# Altium footprint library Power Module.PcbLib: 12 footprints
Each footprint in its own frame and in the unit in brackets; x right, y up, seen from the top. Pads: shape width x height; smd on the part's side, far side on the other; paste and mask are expansions set on the pad; w line width, h text height; cw(c..) or ccw(c..) is an arc to the next point about the centre after c.
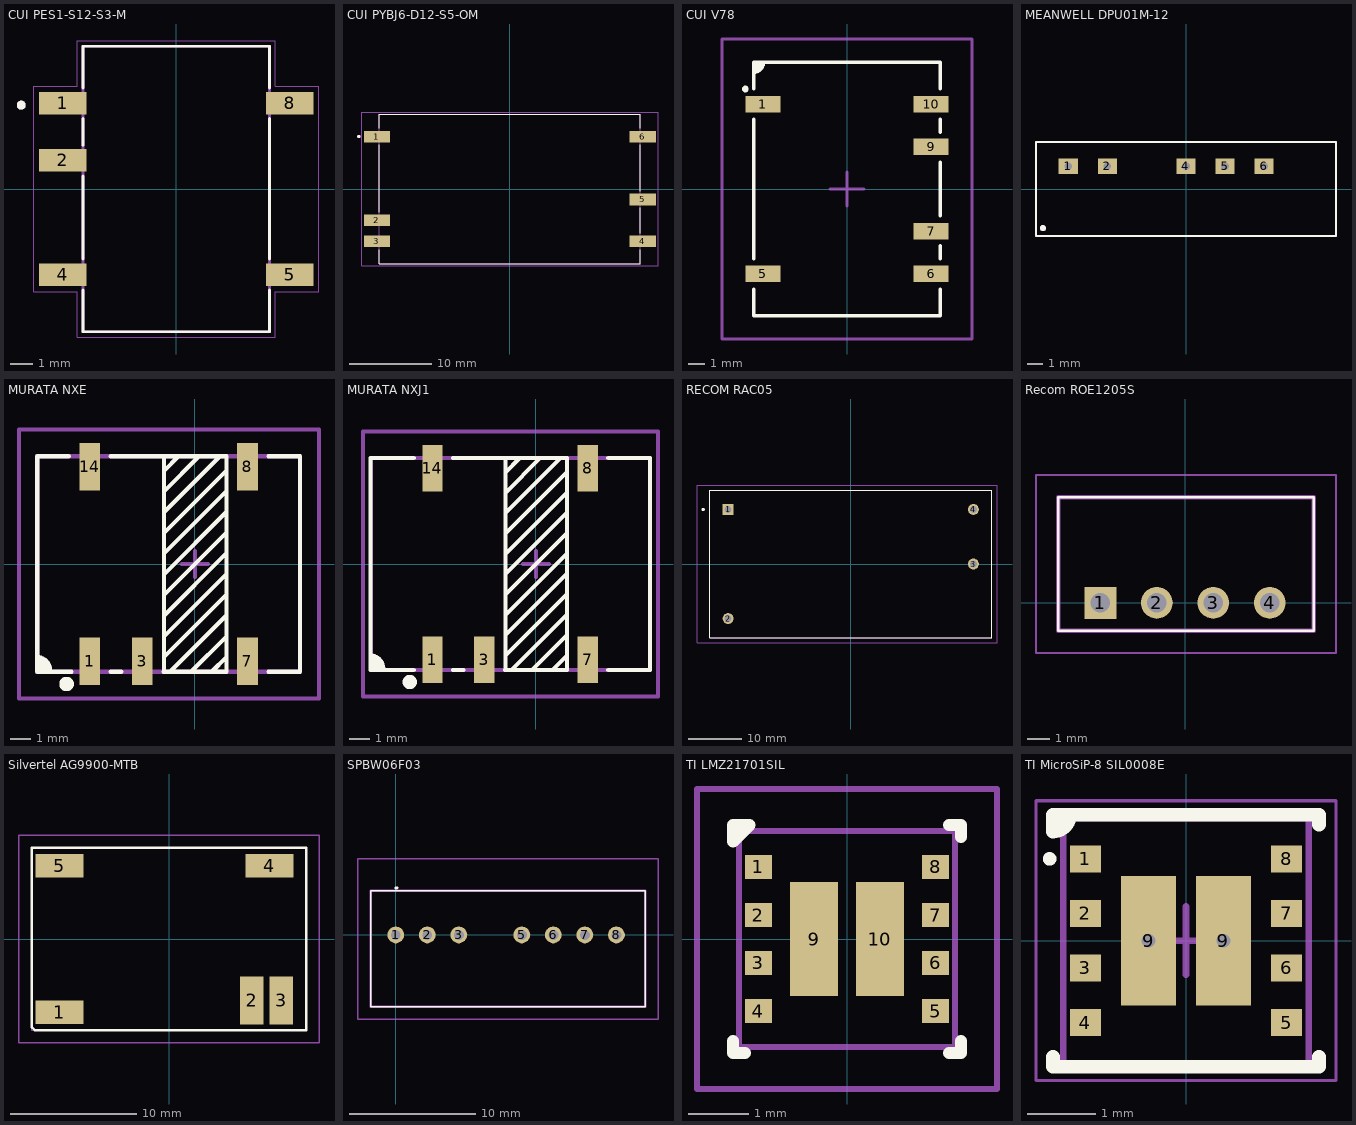
[diagram p0: the footprints below, top view; thin cyan lines are the x and y axes]

## CUI PES1-S12-S3-M [mm] "Non-isolated switching regulator 12.70 x 8.30 x 7.25"
pads (5):
  rect 2.1x1 smd: 1(-5.05,3.81) 2(-5.05,1.27) 4(-5.05,-3.81) 5(5.05,-3.81) 8(5.05,3.81)
Top Overlay:
  circle w0.2: c-6.9,3.73 r0.1
  lines w0.127: -4.15,-4.5 -4.15,-6.35 4.15,-6.35 4.15,-4.49 ; -4.15,-3.12 -4.15,0.58 ; -4.15,1.95 -4.15,3.13 ; -4.15,4.49 -4.15,6.35 4.15,6.35 4.15,4.49 ; 4.15,-3.12 4.15,3.13
Top Component Outline:
  circle w0.2: c-6.9,3.73 r0.1
  circle w0.2: c-6.9,3.73 r0.1
  lines w0.127: -4.15,-6.35 4.15,-6.35 ; -4.15,-6.35 -4.15,6.35 ; -4.15,-6.35 4.15,-6.35 ; -4.15,-6.35 -4.15,6.35 ; -4.15,6.35 4.15,6.35 ; -4.15,6.35 4.15,6.35 ; 4.15,-6.35 4.15,6.35 ; 4.15,-6.35 4.15,6.35
Top Courtyard:
  lines w0.05: -6.35,-4.58 -4.4,-4.58 -4.4,-6.6 4.4,-6.6 4.4,-4.57 6.35,-4.57 6.35,4.58 4.4,4.58 4.4,6.6 -4.4,6.6 -4.4,4.58 -6.35,4.58 -6.35,-4.58
3D body "CUI_PES1-S12-S3-M.step": height 7, standoff -0.25, extent -5.622,-6.35 5.622,6.35

## CUI PYBJ6-D12-S5-OM [mm]
pads (6):
  rect 3.2x1.4 smd: 1(-16.09,6.35) 2(-16.09,-3.81) 3(-16.09,-6.35) 4(16.09,-6.35) 5(16.09,-1.27) 6(16.09,6.35)
Top Overlay:
  circle w0.2: c-18.288,6.35 r0.1
  lines w0.127: -15.8,-7.37 -15.8,-9.05 -1.32,-9.05 15.8,-9.05 15.8,-7.37 ; -15.8,-2.79 -15.8,5.33 ; -15.8,7.37 -15.8,9.05 15.8,9.05 15.8,7.37 ; 15.8,-5.33 15.8,-2.29 ; 15.8,-0.25 15.8,5.33
Fab Notes:
  circle w0.2: c-18.288,6.35 r0.1
  circle w0.2: c-18.288,6.35 r0.1
  lines w0.127: -15.8,-9.05 15.8,-9.05 ; -15.8,-9.05 -15.8,9.05 ; -15.8,-9.05 15.8,-9.05 ; -15.8,-9.05 -15.8,9.05 ; -15.8,9.05 15.8,9.05 ; -15.8,9.05 15.8,9.05 ; 15.8,-9.05 15.8,9.05 ; 15.8,-9.05 15.8,9.05
Bottom Courtyard:
  lines w0.05: -17.94,-9.3 -17.94,9.3 17.94,9.3 17.94,-9.3 -17.94,-9.3
3D body "CUI PYBJ6-D12-S5-OM.step": height 6.3, standoff 0, extent -16.982,-9.101 16.895,9.037

## CUI V78 [mm] "Non-isolated switching regulator"
height 7.25
pads (6):
  rect 2.1x1 smd: 1(-5.05,5.08) 5(-5.05,-5.08) 6(5.05,-5.08) 7(5.05,-2.54) 9(5.05,2.54) 10(5.05,5.08)
Top Overlay:
  circle w0.2: c-6.1,6 r0.1
  region: -5,7.6 -5,7.4 -5.4,7 -5.6,7 -5.6,7.6
  lines w0.2: -5.6,-6 -5.6,-7.6 5.6,-7.6 5.6,-6 ; -5.6,-4.2 -5.6,4.2 ; -5.6,6 -5.6,7.6 5.6,7.6 5.6,6 ; -5.6,7 ccw(c-5.6,7.6) -5,7.6 ; 5.6,-4.2 5.6,-3.4 ; 5.6,-1.6 5.6,1.6 ; 5.6,3.4 5.6,4.2
Top Courtyard:
  lines w0.2: -1,0 1,0 ; 0,-1 0,1 ; -7.5,-9 7.5,-9 7.5,9 -7.5,9 -7.5,-9
3D body "CUI V78.STEP": height 7.25, standoff 0, extent -5.622,-7.62 5.622,7.62

## MEANWELL DPU01M-12 [mm] "Isolated switching regulator 19.5x6x1x10.2mm"
height 10.2
pads (5):
  rect 1.25x1 hole 0.5 square: 1(-7.65,1.475) 2(-5.11,1.475) 4(-0.003,1.475) 5(2.537,1.475) 6(5.077,1.475)
Top Overlay:
  circle w0.2: c-9.3,-2.545 r0.1
  lines w0.127: -9.75,-3.05 -9.75,3.05 9.75,3.05 9.75,-3.05 -9.75,-3.05
Top Component Outline:
  circle w0.2: c-9.3,-2.545 r0.1
  circle w0.2: c-9.3,-2.545 r0.1
  lines w0.127: -9.75,-3.05 -9.75,3.05 ; -9.75,-3.05 9.75,-3.05 ; -9.75,-3.05 -9.75,3.05 ; -9.75,-3.05 9.75,-3.05 ; -9.75,3.05 9.75,3.05 ; -9.75,3.05 9.75,3.05 ; 9.75,-3.05 9.75,3.05 ; 9.75,-3.05 9.75,3.05
Top Courtyard:
  lines w0.05: -9.75,-3.05 9.75,-3.05 9.75,3.05 -9.75,3.05 -9.75,-3.05
3D body: height 10.2, standoff 0, extent -9.725,-3.025 9.725,3.05

## MURATA NXE [mm]
height 4.7
pads (5):
  rect 1x2.3 smd: 1(-5.08,-4.7) 3(-2.54,-4.7) 7(2.54,-4.7) 8(2.54,4.7) 14(-5.08,4.7)
Top Overlay:
  circle w0.5: c-6.2,-5.8 r0.1
  region: -7,-5.207 -7,-4.9 -7.4,-4.5 -7.62,-4.5 -7.62,-5.207
  lines w0.2: -7.62,-4.5 cw(c-7.62,-5.12) -7,-5.12 ; -6.096,5.207 -7.62,5.207 -7.62,-5.207 -5.969,-5.207 ; -4.064,-5.207 -3.556,-5.207 ; -4.064,5.207 1.524,5.207 ; -1.5,-4.5 1.5,-1.5 ; -1.5,-3.5 1.5,-0.5 ; -1.5,-2.5 1.5,0.5 ; -1.5,-1.5 1.5,1.5 ; -1.5,-0.5 1.5,2.5 ; -1.5,0.5 1.5,3.5 ; -1.5,1.5 1.5,4.5 ; -1.5,2.5 1.207,5.207 ; -1.5,3.5 0.207,5.207 ; -1.5,4.5 -0.793,5.207 ; -1.5,5.207 -1.5,-5.207 -1.524,-5.207 1.524,-5.207 1.524,5.207 ; -1.207,-5.207 1.5,-2.5 ; -0.183,-5.207 1.524,-3.5 ; 0.817,-5.207 1.524,-4.5 ; 1.524,5.024 1.524,5.207 ; 3.556,-5.207 5.08,-5.207 5.08,5.207 3.556,5.207
Board:
  lines w0.2: -7.62,-5.207 5.08,-5.207 5.08,5.207 -7.62,5.207 -7.62,-5.207
Top Courtyard:
  lines w0.2: -0.635,0 0.635,0 ; 0,-0.635 0,0.635 ; -8.5,-6.5 6,-6.5 6,6.5 -8.5,6.5 -8.5,-6.5
3D body "MURATA NXE.STEP": height 4.48, standoff -0.01, extent -7.62,-5.207 5.08,5.207

## MURATA NXJ1 [mm]
height 4.7
pads (5):
  rect 1x2.3 smd: 1(-5.08,-4.7) 3(-2.54,-4.7) 7(2.54,-4.7) 8(2.54,4.7) 14(-5.08,4.7)
Top Overlay:
  circle w0.5: c-6.2,-5.8 r0.1
  region: -7.5,-5.207 -7.5,-4.9 -7.9,-4.5 -8.12,-4.5 -8.12,-5.207
  lines w0.2: -8.12,-4.5 cw(c-8.12,-5.12) -7.5,-5.12 ; -6,-5.207 -8.12,-5.207 -8.12,5.207 -6,5.207 ; -4.064,-5.207 -3.556,-5.207 ; -4.064,5.207 1.524,5.207 ; -1.5,-4.5 1.5,-1.5 ; -1.5,-3.5 1.5,-0.5 ; -1.5,-2.5 1.5,0.5 ; -1.5,-1.5 1.5,1.5 ; -1.5,-0.5 1.5,2.5 ; -1.5,0.5 1.5,3.5 ; -1.5,1.5 1.5,4.5 ; -1.5,2.5 1.207,5.207 ; -1.5,3.5 0.207,5.207 ; -1.5,4.5 -0.793,5.207 ; -1.5,5.207 -1.5,-5.207 -1.524,-5.207 1.524,-5.207 1.524,5.207 ; -1.207,-5.207 1.5,-2.5 ; -0.183,-5.207 1.524,-3.5 ; 0.817,-5.207 1.524,-4.5 ; 1.524,5.024 1.524,5.207 ; 3.556,-5.207 5.6,-5.207 5.6,5.207 3.556,5.207
Board:
  lines w0.2: -8.1,-5.207 -8.1,5.207 5.6,5.207 5.6,-5.207 -8.1,-5.207
Top Courtyard:
  lines w0.2: -0.635,0 0.635,0 ; 0,-0.635 0,0.635 ; -8.5,-6.5 -8.5,6.5 6,6.5 6,-6.5 -8.5,-6.5
3D body "Murata NXJ1.STEP": height 4.22, standoff 0, extent -8.128,-5.232 5.588,5.232

## RECOM RAC05 [mm]
pads (4):
  rect 2.025x2.025 hole 1.35: 1(-22.86,10.16)
  round 2.025 hole 1.35: 2(-22.86,-10.16) 3(22.86,0) 4(22.86,10.16)
Top Overlay:
  lines w0.1: -26.25,-13.7 26.25,-13.7 26.25,13.7 -26.25,13.7 -26.25,-13.7
  lines w0.3: -27.66,10.16 cw(c-27.51,10.16) -27.36,10.16 cw(c-27.51,10.16) -27.66,10.16
Top Component Outline:
  lines w0.2: -26.25,-13.7 26.25,-13.7 26.25,13.7 -26.25,13.7 -26.25,-13.7
Top Courtyard:
  lines w0.1: -28.66,-14.7 27.25,-14.7 ; -28.66,-14.7 -28.66,14.7 ; -28.66,-14.7 27.25,-14.7 ; -28.66,-14.7 -28.66,14.7 ; -28.66,14.7 27.25,14.7 ; -28.66,14.7 27.25,14.7 ; 27.25,-14.7 27.25,14.7 ; 27.25,-14.7 27.25,14.7
3D body "RAC05-05SK_480.stp": height 23, standoff -6, extent -26.15,-13.7 26.35,13.7

## Recom ROE1205S [mm]
height 10
pads (4):
  rect 1.43x1.43 hole 0.88: 1(-3.81,0)
  round 1.43 hole 0.88: 2(-1.27,0) 3(1.27,0) 4(3.81,0)
Top Overlay:
  lines w0.1: -5.71,-1.25 -5.71,4.75 5.79,4.75 5.79,-1.25 -5.71,-1.25
Top Component Outline:
  lines w0.2: -5.71,-1.25 -5.71,4.75 5.79,4.75 5.79,-1.25 -5.71,-1.25
Top Courtyard:
  lines w0.1: -6.71,-2.25 -6.71,5.75 6.79,5.75 6.79,-2.25 -6.71,-2.25
3D body "RECOM ROE-2412S.STEP": height 9.5, standoff -4.6, extent -5.76,-1.3 5.74,4.7

## Silvertel AG9900-MTB [mm]
height 9.2
pads (5):
  rect 3.81x1.83 smd: 1(-8.655,-5.79) 4(7.935,5.79) 5(-8.655,5.79)
  rect 1.83x3.81 smd: 2(6.535,-4.85) 3(8.875,-4.85)
Top Overlay:
  lines w0.2: -10.855,-6.945 -10.855,7.21 10.855,7.21 10.855,-7.21 -10.59,-7.21 -10.855,-6.945
Top Component Outline:
  lines w0.1: -10.855,-7.21 10.855,-7.21 10.855,7.21 -10.855,7.21 -10.855,-7.21
Top Courtyard:
  lines w0.1: -11.855,-8.21 11.855,-8.21 11.855,8.21 -11.855,8.21 -11.855,-8.21
3D body "Silvertel Ag9900MTB Detailed.step": height 12.99, standoff -0.05, extent -10.905,-7 10.304,6.919

## SPBW06F03 [mm]
pads (7):
  round 1.337 hole 0.78: 1(0,0) 2(2.5,0) 3(5,0) 5(10,0) 6(12.5,0) 7(15,0) 8(17.5,0)
Top Overlay:
  lines w0.1: -2,-5.7 19.8,-5.7 19.8,3.5 -2,3.5 -2,-5.7
  lines w0.2: 0,3.75 ccw(c0.05,3.75) 0.1,3.75
Top Component Outline:
  lines w0.2: -2,-5.7 19.8,-5.7 19.8,3.5 -2,3.5 -2,-5.7
Top Courtyard:
  lines w0.1: -3,-6.7 20.8,-6.7 20.8,6.05 -3,6.05 -3,-6.7
3D body "SPBW06F-03.stp": height 11.1, standoff -5, extent -2,-5.7 19.8,3.5

## TI LMZ21701SIL [mm]
pads (10):
  rect 0.45x0.4 smd paste+0 mask+0.076: 1(-1.475,1.2) 2(-1.475,0.4) 3(-1.475,-0.4) 4(-1.475,-1.2) 5(1.475,-1.2) 6(1.475,-0.4) 7(1.475,0.4) 8(1.475,1.2)
  rect 0.8x1.9 smd paste-0.937 mask+0.076: 9(-0.55,0) 10(0.55,0)
Top Overlay:
  lines w0.2: -1.9,-1.7 -1.9,-1.9 -1.7,-1.9 ; 1.7,-1.9 1.9,-1.9 1.9,-1.7 ; 1.7,1.9 1.9,1.9 1.9,1.7 ; -1.9,1.625 -1.625,1.9 -1.9,1.9 -1.9,1.625
Top Paste:
  region: -0.925,0.95 -0.925,0.1 -0.165,0.1 -0.165,0.95
  region: 0.17,-0.1 0.17,-0.95 0.93,-0.95 0.93,-0.1
  region: 0.17,0.95 0.17,0.1 0.93,0.1 0.93,0.95
  region: -0.93,-0.1 -0.93,-0.95 -0.17,-0.95 -0.17,-0.1
Top Component Outline:
  lines w0.1: -1.8,-1.8 -1.8,1.8 1.8,1.8 1.8,-1.8 -1.8,-1.8
Top Courtyard:
  lines w0.1: -2.5,-2.5 2.5,-2.5 2.5,2.5 -2.5,2.5 -2.5,-2.5
3D body: height 0.25, standoff 0, extent 0,0 0.254,0.254
3D body "TI LMZ21701SIL.stp": height 1.66, standoff 0, extent -1.75,-1.75 1.75,1.75

## TI MicroSiP-8 SIL0008E [mm] "MicroSIP, 8-Leads, Body 3.50x3.50mm, Pitch 0.80mm, Thermal Pad 0.00x0.00mm, IPC Medium Density"
height 1.75
pads (10):
  rect 0.45x0.4 smd: 1(-1.475,1.2) 2(-1.475,0.4) 3(-1.475,-0.4) 4(-1.475,-1.2) 5(1.475,-1.2) 6(1.475,-0.4) 7(1.475,0.4) 8(1.475,1.2)
  rect 0.8x1.9 smd paste-2: 9(-0.55,0) 9(0.55,0)
via -0.55,0 diameter 0.6 hole 0.2
via 0.55,0 diameter 0.6 hole 0.2
Top Overlay:
  circle w0.1: c-2,1.2 r0.05
  region: -1.95,1.85 -1.7,1.85 -1.95,1.6
  lines w0.2: -1.95,-1.7 -1.95,-1.85 1.95,-1.85 1.95,-1.7 ; -1.7,1.85 cw(c-1.95,1.85) -1.95,1.6 -1.95,1.85 1.95,1.85 1.95,1.7
Top Paste:
  rectangle: 0.17,0.145 0.93,0.905
  region: -0.17,0.905 -0.93,0.905 -0.93,0.145 -0.17,0.145
  region: -0.17,-0.145 -0.93,-0.145 -0.93,-0.905 -0.17,-0.905
  rectangle: 0.17,-0.905 0.93,-0.145
Top Component Outline:
  lines w0.1: -1.8,-1.8 -1.8,1.8 1.8,1.8 1.8,-1.8 -1.8,-1.8
Top Courtyard:
  lines w0.05: -2.2,-2.05 -2.2,2.05 2.2,2.05 2.2,-2.05 -2.2,-2.05
  lines w0.1: -0.5,0 0.5,0 ; 0,-0.5 0,0.5
3D body "TI LMZ21701.STEP": height 1.75, standoff 0, extent -1.75,-1.75 1.75,1.75